# Altium schematic symbol library NCV317M.Schlib: 1 symbol
Pins are listed as number, name and electrical type; pins without a type are passive.

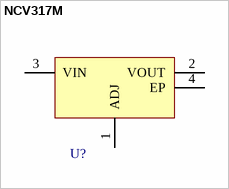
[diagram p0: symbol NCV317M]

## NCV317M
designator U?
adjustable three−terminal positive voltage regulator
pins: 1 ADJ (power), 2 VOUT (power), 3 VIN (power), 4 EP